# Altium footprint library Diodo SMD 0201.PcbLib: 7 footprints
Each footprint in its own frame and in the unit in brackets; x right, y up, seen from the top. Pads: shape width x height; smd on the part's side, far side on the other; paste and mask are expansions set on the pad; w line width, h text height; cw(c..) or ccw(c..) is an arc to the next point about the centre after c.
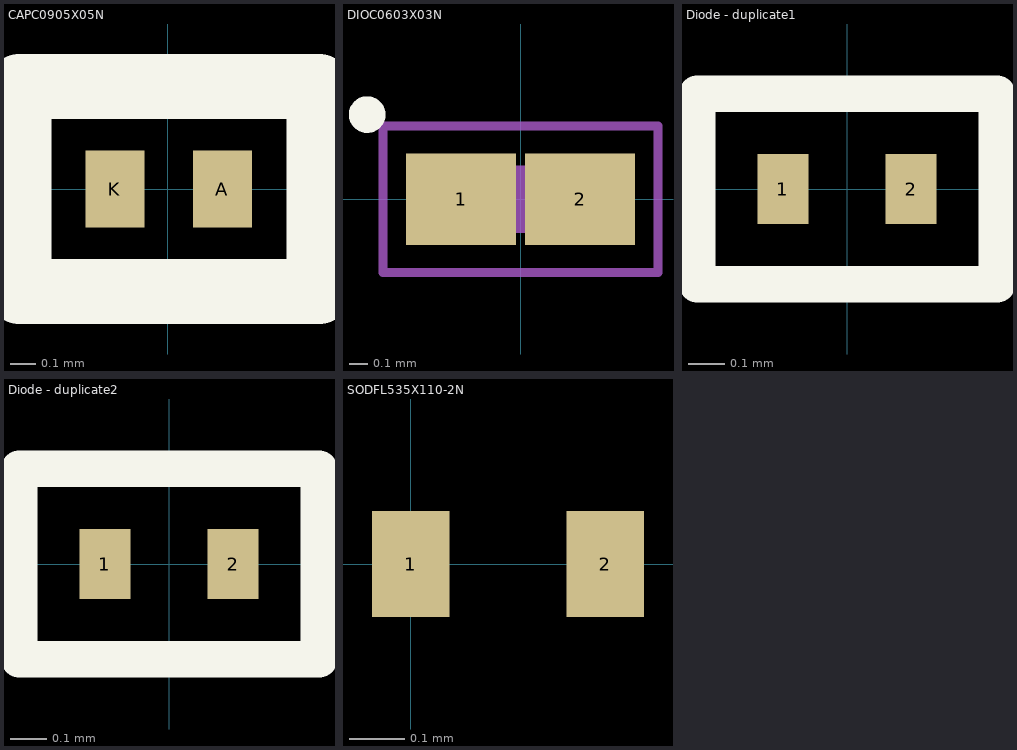
[diagram p0: the footprints below, top view; thin cyan lines are the x and y axes]

## CAPC0905X05N [mm] "Chip Capacitor, 2-Leads, Body 0,90x0,50mm, IPC Medium Density"
height 0.5
pads (2):
  rect 0.23x0.3 smd: A(0.213,0) K(-0.206,0)
Top Overlay:
  lines w0.254: -0.58,-0.4 -0.58,0.4 0.59,0.4 0.59,-0.4 -0.58,-0.4
3D body "User Library-CDBZ0130L-HF.step": height 0.3, standoff -0.01, extent -0.3,-0.15 0.32,0.17

## DIOC0603X03N [mm] "Chip Diode, 2-Leads, Body 0,60x0,30mm, IPC Medium Density"
height 0.32
pads (2):
  rect 0.6x0.5 smd: 1(-0.325,0) 2(0.325,0)
Top Overlay:
  circle w0.1: c-0.837,0.462 r0.05
Mechanical 13:
  lines w0.1: -0.285,-0.135 0.285,-0.135 0.285,0.135 -0.285,0.135 -0.285,-0.135
Mechanical 15:
  lines w0.05: -0.75,-0.4 0.75,-0.4 0.75,0.4 -0.75,0.4 -0.75,-0.4
  lines w0.1: -0.135,0 0.135,0 ; 0,-0.135 0,0.135
3D body "User Library-CDBZ0130L-HF.step": height 0.31, standoff 0, extent -0.315,-0.16 0.305,0.16

## Diode [mm]

## Diode - duplicate [mm]

## Diode - duplicate1 [mm]
pads (2):
  rect 0.14x0.19 smd: 1(-0.175,0) 2(0.175,0)
Top Overlay:
  lines w0.1: -0.41,-0.26 0.41,-0.26 0.41,0.26 -0.41,0.26 -0.41,-0.26

## Diode - duplicate2 [mm]
pads (2):
  rect 0.14x0.19 smd: 1(-0.175,0) 2(0.175,0)
Top Overlay:
  lines w0.1: -0.41,-0.26 -0.41,0.26 0.41,0.26 0.41,-0.26 -0.41,-0.26
3D body: height 44.28, standoff 43.73, extent -0.17,-0.08 -0.17,-0.08

## SODFL535X110-2N [mm] "SODFL, 2-Leads, Body 3,63x5,35mm, IPC Medium Density"
height 1.1
pads (2):
  rect 0.14x0.19 smd: 1(0,0) 2(0.35,0)